# EAGLE library part ASS21020G (library Jack-connectors)
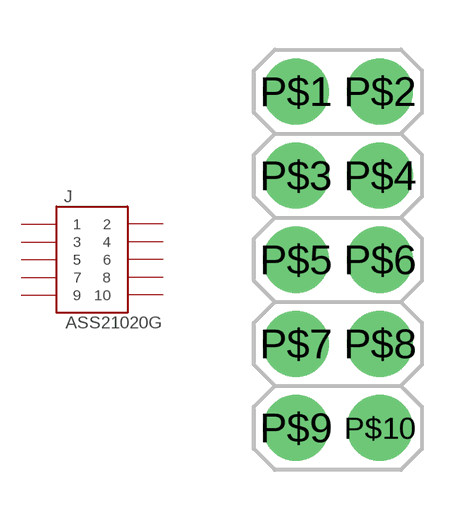
[diagram p28: symbol with the pads of ASS21020G; footprint ASS21020G]

Designator prefix J

## ASS21020G  [ASS21020G]
P$1  1  pas
P$2  2  pas
P$3  3  pas
P$4  4  pas
P$5  5  pas
P$6  6  pas
P$7  7  pas
P$8  8  pas
P$9  9  pas
P$10  10  pas

## Footprint ASS21020G (pad centres in mm)
drill 0.8 pad 2: P$1 -1.27,5.08; P$2 1.27,5.08; P$3 -1.27,2.54; P$4 1.27,2.54; P$5 -1.27,0; P$6 1.27,0; P$7 -1.27,-2.54; P$8 1.27,-2.54; P$9 -1.27,-5.08; P$10 1.27,-5.08